# Altium footprint library Teensy3.PCBLIB: 11 footprints
Each footprint in its own frame and in the unit in brackets; x right, y up, seen from the top. Pads: shape width x height; smd on the part's side, far side on the other; paste and mask are expansions set on the pad; w line width, h text height; cw(c..) or ccw(c..) is an arc to the next point about the centre after c.
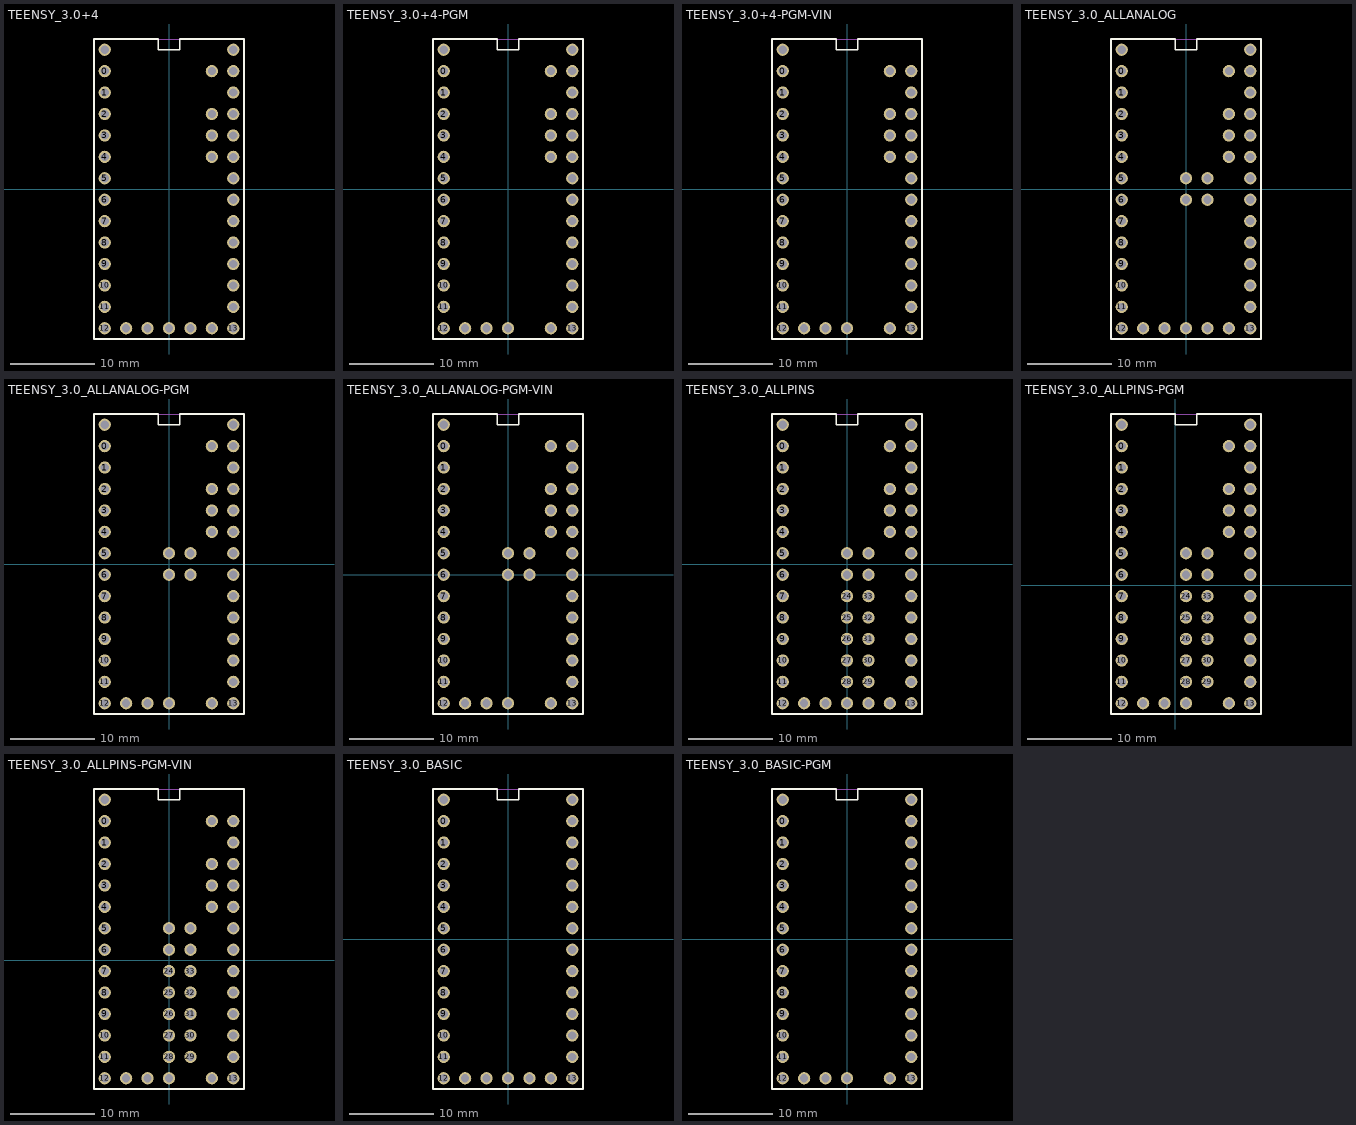
[diagram p0: the footprints below, top view; thin cyan lines are the x and y axes]

## TEENSY_3.0+4 [mil]
pads (37):
  round 57 hole 38: 0(-300,550) 1(-300,450) 2(-300,350) 3(-300,250) 3.3V(300,450) 3.3V1(-100,-650) 4(-300,150) 5(-300,50) 6(-300,-50) 7(-300,-150) 8(-300,-250) 9(-300,-350) 10(-300,-450) 11(-300,-550) 12(-300,-650) 13(300,-650) 14/A0(300,-550) 15/A1(300,-450) 16/A2(300,-350) 17/A3(300,-250) 18/A4(300,-150) 19/A5(300,-50) 20/A6(300,50) 21/A7(300,150) 22/A8(300,250) 23/A9(300,350) A10(200,250) A11(200,150) A14(200,-650) AGND(300,550) AREF(200,350) GND(-300,650) GND1(0,-650) PGM(100,-650) VBAT(-200,-650) VIN(300,650) VUSB(200,550)
Top Overlay:
  lines w8: -350,-700 -350,700 -50,700 -50,650 50,650 50,700 350,700 350,-700 -350,-700
Mechanical 16:
  lines w5: -350,-700 -350,700 350,700 350,-700 -350,-700
3D body: height 335.32, standoff -121.37, extent 250.79,-700 349.21,719.68
3D body: height 335.32, standoff -121.37, extent -348.43,-700 -250,719.68
3D body: height 335.32, standoff -121.37, extent -259.84,-699.21 259.85,-600.78
3D body: height 505.09, standoff 334.03, extent -344.37,-708.11 334.37,710

## TEENSY_3.0+4-PGM [mil]
pads (36):
  round 57 hole 38: 0(-300,550) 1(-300,450) 2(-300,350) 3(-300,250) 3.3V(300,450) 3.3V1(-100,-650) 4(-300,150) 5(-300,50) 6(-300,-50) 7(-300,-150) 8(-300,-250) 9(-300,-350) 10(-300,-450) 11(-300,-550) 12(-300,-650) 13(300,-650) 14/A0(300,-550) 15/A1(300,-450) 16/A2(300,-350) 17/A3(300,-250) 18/A4(300,-150) 19/A5(300,-50) 20/A6(300,50) 21/A7(300,150) 22/A8(300,250) 23/A9(300,350) A10(200,250) A11(200,150) AGND(300,550) AREF(200,350) GND(-300,650) GND1(0,-650) RESET(200,-650) VBAT(-200,-650) VIN(300,650) VUSB(200,550)
Top Overlay:
  lines w8: -350,-700 -350,700 -50,700 -50,650 50,650 50,700 350,700 350,-700 -350,-700
Mechanical 16:
  lines w5: -350,-700 -350,700 350,700 350,-700 -350,-700

## TEENSY_3.0+4-PGM-VIN [mil]
pads (35):
  round 57 hole 38: 0(-300,550) 1(-300,450) 2(-300,350) 3(-300,250) 3.3V(300,450) 3.3V1(-100,-650) 4(-300,150) 5(-300,50) 6(-300,-50) 7(-300,-150) 8(-300,-250) 9(-300,-350) 10(-300,-450) 11(-300,-550) 12(-300,-650) 13(300,-650) 14/A0(300,-550) 15/A1(300,-450) 16/A2(300,-350) 17/A3(300,-250) 18/A4(300,-150) 19/A5(300,-50) 20/A6(300,50) 21/A7(300,150) 22/A8(300,250) 23/A9(300,350) A10(200,250) A11(200,150) AGND(300,550) AREF(200,350) GND(-300,650) GND1(0,-650) RESET(200,-650) VBAT(-200,-650) VUSB(200,550)
Top Overlay:
  lines w8: -350,-700 -350,700 -50,700 -50,650 50,650 50,700 350,700 350,-700 -350,-700
Mechanical 16:
  lines w5: -350,-700 -350,700 350,700 350,-700 -350,-700

## TEENSY_3.0_ALLANALOG [mil]
pads (41):
  round 57 hole 38: 0(-300,550) 1(-300,450) 2(-300,350) 3(-300,250) 3.3V(-100,-650) 3.3V(100,-50) 3.3V(300,450) 4(-300,150) 5(-300,50) 6(-300,-50) 7(-300,-150) 8(-300,-250) 9(-300,-350) 10(-300,-450) 11(-300,-550) 12(-300,-650) 13(300,-650) 14/A0(300,-550) 15/A1(300,-450) 16/A2(300,-350) 17/A3(300,-250) 18/A4(300,-150) 19/A5(300,-50) 20/A6(300,50) 21/A7(300,150) 22/A8(300,250) 23/A9(300,350) A10(200,250) A11(200,150) A12(0,50) A13(100,50) AGND(300,550) AREF(200,350) GND(-300,650) GND(0,-650) GND(0,-50) PGM(100,-650) RST(200,-650) VBAT(-200,-650) VIN(300,650) VUSB(200,550)
Top Overlay:
  lines w8: -350,-700 -350,700 -50,700 -50,650 50,650 50,700 350,700 350,-700 -350,-700
Mechanical 16:
  lines w5: -350,-700 -350,700 350,700 350,-700 -350,-700

## TEENSY_3.0_ALLANALOG-PGM [mil]
pads (40):
  round 57 hole 38: 0(-300,550) 1(-300,450) 2(-300,350) 3(-300,250) 3.3V(300,450) 3.3V1(-100,-650) 3.3V2(100,-50) 4(-300,150) 5(-300,50) 6(-300,-50) 7(-300,-150) 8(-300,-250) 9(-300,-350) 10(-300,-450) 11(-300,-550) 12(-300,-650) 13(300,-650) 14/A0(300,-550) 15/A1(300,-450) 16/A2(300,-350) 17/A3(300,-250) 18/A4(300,-150) 19/A5(300,-50) 20/A6(300,50) 21/A7(300,150) 22/A8(300,250) 23/A9(300,350) A10(200,250) A11(200,150) A12(0,50) A13(100,50) AGND(300,550) AREF(200,350) GND(-300,650) GND1(0,-650) GND2(0,-50) RST(200,-650) VBAT(-200,-650) VIN(300,650) VUSB(200,550)
Top Overlay:
  lines w8: -350,-700 350,-700 350,700 50,700 50,650 -50,650 -50,700 -350,700 -350,-700
Mechanical 16:
  lines w5: -350,-700 350,-700 350,700 -350,700 -350,-700

## TEENSY_3.0_ALLANALOG-PGM-VIN [mil]
pads (39):
  round 57 hole 38: 0(-300,600) 1(-300,500) 2(-300,400) 3(-300,300) 3.3V(300,500) 3.3V1(-100,-600) 3.3V2(100,0) 4(-300,200) 5(-300,100) 6(-300,0) 7(-300,-100) 8(-300,-200) 9(-300,-300) 10(-300,-400) 11(-300,-500) 12(-300,-600) 13(300,-600) 14/A0(300,-500) 15/A1(300,-400) 16/A2(300,-300) 17/A3(300,-200) 18/A4(300,-100) 19/A5(300,0) 20/A6(300,100) 21/A7(300,200) 22/A8(300,300) 23/A9(300,400) A10(200,300) A11(200,200) A12(0,100) A13(100,100) AGND(300,600) AREF(200,400) GND(-300,700) GND1(0,-600) GND2(0,0) RST(200,-600) VBAT(-200,-600) VUSB(200,600)
Top Overlay:
  lines w8: -350,-650 350,-650 350,750 50,750 50,700 -50,700 -50,750 -350,750 -350,-650
Mechanical 16:
  lines w5: -350,-650 350,-650 350,750 -350,750 -350,-650

## TEENSY_3.0_ALLPINS [mil]
pads (51):
  round 57 hole 38: 0(-300,550) 1(-300,450) 2(-300,350) 3(-300,250) 3.3V(300,450) 3.3V1(-100,-650) 3.3V2(100,-50) 4(-300,150) 5(-300,50) 6(-300,-50) 7(-300,-150) 8(-300,-250) 9(-300,-350) 10(-300,-450) 11(-300,-550) 12(-300,-650) 13(300,-650) 14/A0(300,-550) 15/A1(300,-450) 16/A2(300,-350) 17/A3(300,-250) 18/A4(300,-150) 19/A5(300,-50) 20/A6(300,50) 21/A7(300,150) 22/A8(300,250) 23/A9(300,350) 24(0,-150) 25(0,-250) 26(0,-350) 27(0,-450) 28(0,-550) 29(100,-550) 30(100,-450) 31(100,-350) 32(100,-250) 33(100,-150) A10(200,250) A11(200,150) A12(0,50) A13(100,50) AGND(300,550) AREF(200,350) GND(-300,650) GND1(0,-650) GND2(0,-50) PGM(100,-650) RESET(200,-650) VBAT(-200,-650) VIN(300,650) VUSB(200,550)
Top Overlay:
  lines w8: -350,-700 -350,700 -50,700 -50,650 50,650 50,700 350,700 350,-700 -350,-700
Mechanical 16:
  lines w5: -350,-700 -350,700 350,700 350,-700 -350,-700

## TEENSY_3.0_ALLPINS-PGM [mil]
pads (50):
  round 57 hole 38: 0(-250,650) 1(-250,550) 2(-250,450) 3(-250,350) 3.3V(350,550) 3.3V1(-50,-550) 3.3V2(150,50) 4(-250,250) 5(-250,150) 6(-250,50) 7(-250,-50) 8(-250,-150) 9(-250,-250) 10(-250,-350) 11(-250,-450) 12(-250,-550) 13(350,-550) 14/A0(350,-450) 15/A1(350,-350) 16/A2(350,-250) 17/A3(350,-150) 18/A4(350,-50) 19/A5(350,50) 20/A6(350,150) 21/A7(350,250) 22/A8(350,350) 23/A9(350,450) 24(50,-50) 25(50,-150) 26(50,-250) 27(50,-350) 28(50,-450) 29(150,-450) 30(150,-350) 31(150,-250) 32(150,-150) 33(150,-50) A10(250,350) A11(250,250) A12(50,150) A13(150,150) AGND(350,650) AREF(250,450) GND(-250,750) GND1(50,-550) GND2(50,50) RST(250,-550) VBAT(-150,-550) VIN(350,750) VUSB(250,650)
Top Overlay:
  lines w8: -300,-600 400,-600 400,800 100,800 100,750 0,750 0,800 -300,800 -300,-600
Mechanical 16:
  lines w5: -300,-600 400,-600 400,800 -300,800 -300,-600

## TEENSY_3.0_ALLPINS-PGM-VIN [mil]
pads (49):
  round 57 hole 38: 0(-300,650) 1(-300,550) 2(-300,450) 3(-300,350) 3.3V(300,550) 3.3V1(-100,-550) 3.3V2(100,50) 4(-300,250) 5(-300,150) 6(-300,50) 7(-300,-50) 8(-300,-150) 9(-300,-250) 10(-300,-350) 11(-300,-450) 12(-300,-550) 13(300,-550) 14/A0(300,-450) 15/A1(300,-350) 16/A2(300,-250) 17/A3(300,-150) 18/A4(300,-50) 19/A5(300,50) 20/A6(300,150) 21/A7(300,250) 22/A8(300,350) 23/A9(300,450) 24(0,-50) 25(0,-150) 26(0,-250) 27(0,-350) 28(0,-450) 29(100,-450) 30(100,-350) 31(100,-250) 32(100,-150) 33(100,-50) A10(200,350) A11(200,250) A12(0,150) A13(100,150) AGND(300,650) AREF(200,450) GND(-300,750) GND1(0,-550) GND2(0,50) RST(200,-550) VBAT(-200,-550) VUSB(200,650)
Top Overlay:
  lines w8: -350,-600 350,-600 350,800 50,800 50,750 -50,750 -50,800 -350,800 -350,-600
Mechanical 16:
  lines w5: -350,-600 350,-600 350,800 -350,800 -350,-600

## TEENSY_3.0_BASIC [mil]
pads (33):
  round 57 hole 38: 0(-300,550) 1(-300,450) 2(-300,350) 3(-300,250) 3.3V(300,450) 3.3V1(-100,-650) 4(-300,150) 5(-300,50) 6(-300,-50) 7(-300,-150) 8(-300,-250) 9(-300,-350) 10(-300,-450) 11(-300,-550) 12(-300,-650) 13(300,-650) 14/A0(300,-550) 15/A1(300,-450) 16/A2(300,-350) 17/A3(300,-250) 18/A4(300,-150) 19/A5(300,-50) 20/A6(300,50) 21/A7(300,150) 22/A8(300,250) 23/A9(300,350) AGND(300,550) GND(-300,650) GND1(0,-650) PGM(100,-650) RESET(200,-650) VBAT(-200,-650) VIN(300,650)
Top Overlay:
  lines w8: -350,-700 350,-700 350,700 50,700 50,650 -50,650 -50,700 -350,700 -350,-700
Mechanical 16:
  lines w5: -350,-700 350,-700 350,700 -350,700 -350,-700

## TEENSY_3.0_BASIC-PGM [mil]
pads (32):
  round 57 hole 38: 0(-300,550) 1(-300,450) 2(-300,350) 3(-300,250) 3.3V(300,450) 3.3V1(-100,-650) 4(-300,150) 5(-300,50) 6(-300,-50) 7(-300,-150) 8(-300,-250) 9(-300,-350) 10(-300,-450) 11(-300,-550) 12(-300,-650) 13(300,-650) 14/A0(300,-550) 15/A1(300,-450) 16/A2(300,-350) 17/A3(300,-250) 18/A4(300,-150) 19/A5(300,-50) 20/A6(300,50) 21/A7(300,150) 22/A8(300,250) 23/A9(300,350) AGND(300,550) GND(-300,650) GND1(0,-650) RESET(200,-650) VBAT(-200,-650) VIN(300,650)
Top Overlay:
  lines w8: -350,-700 350,-700 350,700 50,700 50,650 -50,650 -50,700 -350,700 -350,-700
Mechanical 16:
  lines w5: -350,-700 350,-700 350,700 -350,700 -350,-700